# Altium footprint library xtal_hc49us_smd.PcbLib: 1 footprints
Each footprint in its own frame and in the unit in brackets; x right, y up, seen from the top. Pads: shape width x height; smd on the part's side, far side on the other; paste and mask are expansions set on the pad; w line width, h text height; cw(c..) or ccw(c..) is an arc to the next point about the centre after c.
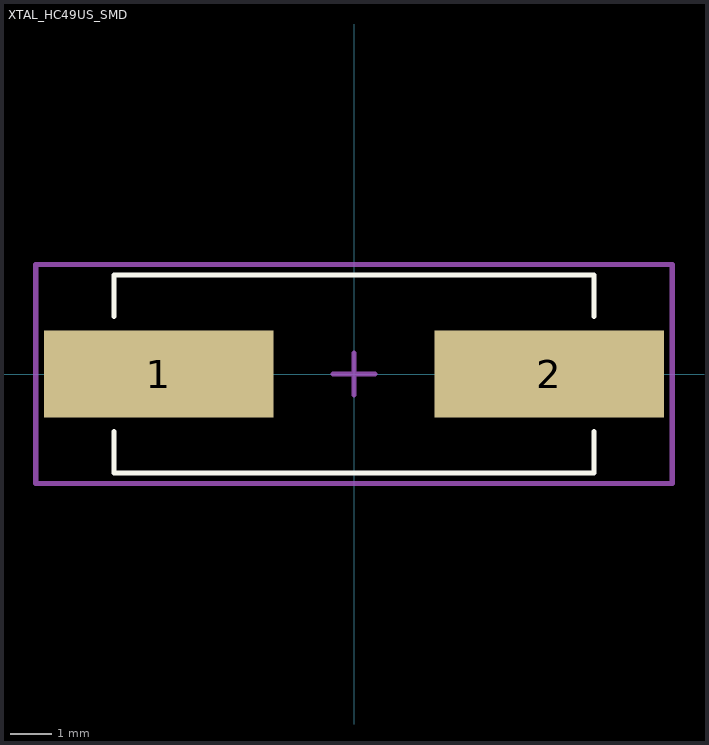
[diagram p0: the footprint, top view; thin cyan lines are the x and y axes]

## XTAL_HC49US_SMD [mil]
height 129.92
pads (2):
  rect 220x83 smd: 1(-187,0) 2(187,0)
Top Overlay:
  lines w5: -230,-55 -230,-95 230,-95 230,-55 ; -230,55 -230,95 230,95 230,55
Top Courtyard:
  lines w5: -20,0 20,0 ; 0,-20 0,20 ; -305,-105 -305,105 305,105 305,-105 -305,-105
3D body "User Library-HC49US.STEP": height 165.35, standoff 0, extent -250,-92.44 250,92.6